# Altium footprint library robot.PcbLib: 32 footprints (part 2 of 2)
Each footprint in its own frame and in the unit in brackets; x right, y up, seen from the top. Pads: shape width x height; smd on the part's side, far side on the other; paste and mask are expansions set on the pad; w line width, h text height; cw(c..) or ccw(c..) is an arc to the next point about the centre after c.
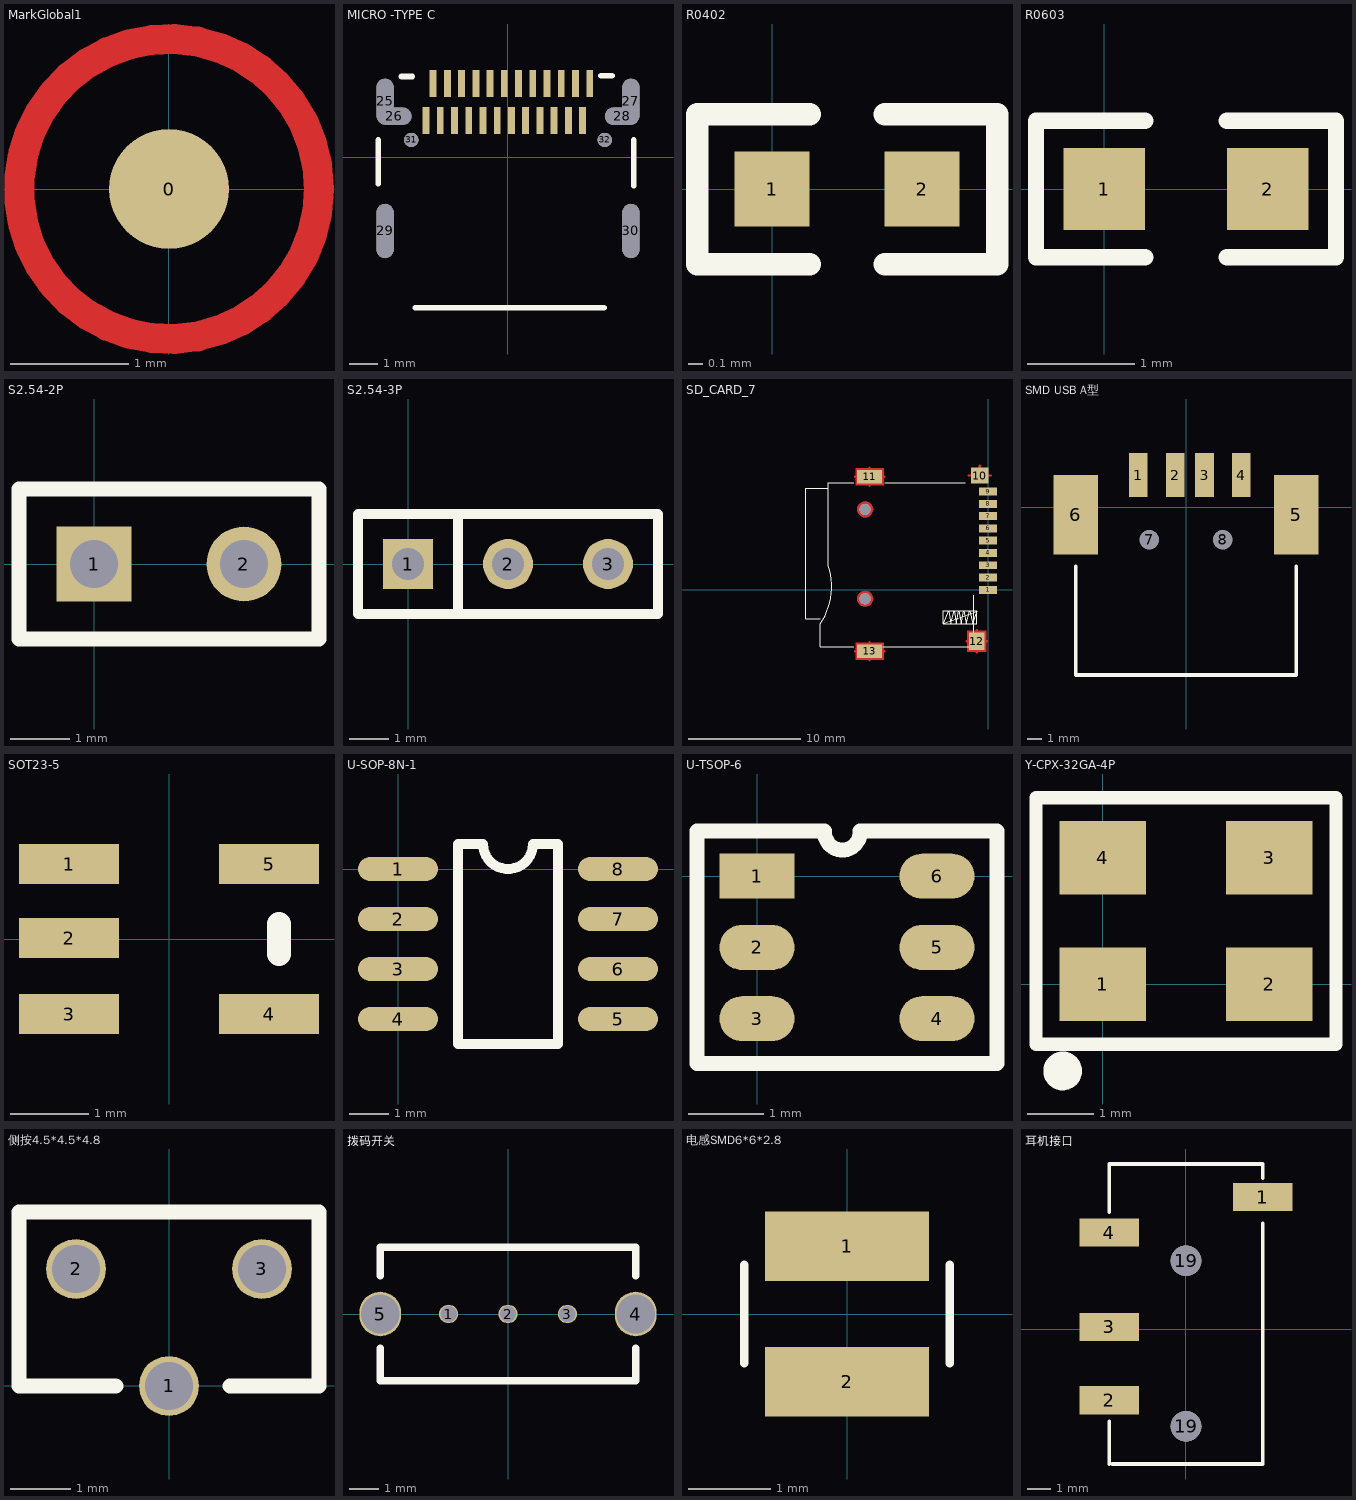
[diagram p1: the footprints below, top view; thin cyan lines are the x and y axes]

## MarkGlobal1 [mil]
pads (1):
  round 40 smd: 0(0.1,0.1)
Top Layer:
  circle w10: c0.1,0.1 r50
Top Solder:
  circle w20: c0.1,0.1 r30

## MICRO -TYPE C [mm]
pads (32):
  oval 0.6x1.6 hole 0.6 slot 1.6 at 90 deg: 25(-4.32,1.963) 27(4.32,1.963)
  oval 1.2x0.6 hole 0.6 slot 1.2 at 0 deg: 26(-3.995,1.445) 28(4.006,1.445)
  oval 0.6x1.9 hole 0.6 slot 1.9 at 90 deg: 29(-4.32,-2.588) 30(4.32,-2.588)
  round 0.5 hole 0.5: 31(-3.4,0.613) 32(3.4,0.613)
  rect 0.24x0.95 smd: A1(-2.63,2.588) A2(-2.13,2.588) A3(-1.63,2.588) A4(-1.13,2.588) A5(-0.63,2.588) A6(-0.13,2.588) A7(0.37,2.588) A8(0.87,2.588) A9(1.37,2.588) A10(1.87,2.588) A11(2.37,2.588) A12(2.87,2.588) B1(-2.88,1.288) B2(-2.38,1.288) B3(-1.88,1.288) B4(-1.38,1.288) B5(-0.88,1.288) B6(-0.38,1.288) B7(0.12,1.288) B8(0.62,1.288) B9(1.12,1.288) B10(1.62,1.288) B11(2.12,1.288) B12(2.62,1.288)
Top Overlay:
  lines w0.2: -4.553,-0.93 -4.553,0.607 ; -3.741,2.842 -3.36,2.842 ; -3.258,-5.286 3.371,-5.286 ; 3.27,2.867 3.651,2.867 ; 4.413,-0.994 4.413,0.606

## R0402 [mil]
height 10
pads (2):
  rect 20x20 smd: 1(0,0) 2(40,0)
Top Overlay:
  lines w6: 10,-20 -20,-20 -20,20 10,20 ; 30,-20 60,-20 60,20 30,20
3D body "R0402.STEP": height 13.78, standoff 0, extent 0.32,-10 39.69,9.68

## R0603 [mil]
height 12
pads (2):
  rect 30x30 smd: 1(0,0) 2(60,0)
Top Overlay:
  lines w6: 15,-25 -25,-25 -25,25 15,25 ; 45,-25 85,-25 85,25 45,25
3D body "R0603.STEP": height 17.72, standoff 0, extent -0.5,-16 62.5,15.5

## S2.54-2P [mil]
pads (2):
  rect 50x50 hole 32: 1(0,0)
  round 50 hole 32: 2(100,0)
Top Overlay:
  lines w10: -50,-50 150,-50 150,50 -50,50 -50,-50
3D body: height 100, standoff 0, extent -50,-50 150,50
3D body: height 314.96, standoff -78.74, extent -16,-16 15.37,15.43
3D body: height 314.96, standoff -78.74, extent 84,-16 115.37,15.43

## S2.54-3P [mil]
pads (3):
  rect 50x50 hole 32: 1(0,0)
  round 50 hole 32: 2(100,0) 3(200,0)
Top Overlay:
  lines w10: 50,-50 50,50 ; -50,-50 250,-50 250,50 -50,50 -50,-50
3D body: height 100, standoff 0, extent -50,-50 250,50
3D body: height 314.96, standoff -78.74, extent -16,-16 15.37,15.43
3D body: height 314.96, standoff -78.74, extent 84,-16 115.37,15.43
3D body: height 314.96, standoff -78.74, extent 184,-16 215.37,15.43

## SD_CARD_7 [mil] "This is 9信号的，适用于A33"
pads (15):
  rect 63x28 smd: 1(0,0) 2(0,43.3) 3(0,86.61) 4(0,129.92) 5(0,173.22) 6(0,216.53) 7(0,259.84) 8(0,303.15) 9(0,346.45)
  rect 63x55 smd: 10(-29.37,402.7)
  rect 87x47 smd: 11(-417.32,398.7) 13(-417.32,-216.54)
  rect 55x63 smd: 12(-39.37,-181.11)
  round 39.37 / inner round 60 / far side round 39.37 hole 39.37: " "(-433.07,-31.5) " "(-433.07,283.46)
Top Layer:
  pour cut-out: -405.14,-31.5 -406.1,-24.27 -408.89,-17.54 -413.32,-11.75 -419.11,-7.32 -425.84,-4.53 -433.07,-3.57 -440.3,-4.53 -447.03,-7.32 -452.82,-11.75 -457.25,-17.54 -460.04,-24.27 -461,-31.5 -460.04,-38.73 -457.25,-45.46 -452.82,-51.25 -447.03,-55.68 -440.3,-58.47 -433.07,-59.43 -425.84,-58.47 -419.11,-55.68 -413.32,-51.25 -408.89,-45.46 -406.1,-38.73
  pour cut-out: -405.14,283.46 -406.1,290.69 -408.89,297.42 -413.32,303.21 -419.11,307.64 -425.84,310.43 -433.07,311.39 -440.3,310.43 -447.03,307.64 -452.82,303.21 -457.25,297.42 -460.04,290.69 -461,283.46 -460.04,276.23 -457.25,269.5 -452.82,263.71 -447.03,259.28 -440.3,256.49 -433.07,255.53 -425.84,256.49 -419.11,259.28 -413.32,263.71 -408.89,269.5 -406.1,276.23
  pour cut-out: -5.87,-143.61 -5.87,-218.61 -72.87,-218.61 -72.87,-143.61
  pour cut-out: -367.82,-187.04 -367.82,-246.04 -466.82,-246.04 -466.82,-187.04
  pour cut-out: -367.82,428.2 -367.82,369.2 -466.82,369.2 -466.82,428.2
  lines w6: 0,43.3 0.28,43.58
  lines w8: -468.82,-216.54 -417.32,-216.54 ; -468.82,398.7 -417.32,398.7 ; -417.32,-248.04 -417.32,-216.54 ; -417.32,-185.04 -417.32,-216.54 ; -417.32,367.2 -417.32,398.7 ; -417.32,430.2 -417.32,398.7 ; -365.82,-216.54 -417.32,-216.54 ; -365.82,398.7 -417.32,398.7 ; -74.87,-181.11 -39.37,-181.11 ; -68.87,402.7 -29.37,402.7 ; -39.37,-220.61 -39.37,-181.11 ; -39.37,-141.61 -39.37,-181.11 ; -29.37,438.2 -29.37,402.7 ; -3.87,-181.11 -39.37,-181.11 ; 10.13,402.7 -29.37,402.7
Bottom Layer:
  pour cut-out: -405.14,-31.5 -406.1,-24.27 -408.89,-17.54 -413.32,-11.75 -419.11,-7.32 -425.84,-4.53 -433.07,-3.57 -440.3,-4.53 -447.03,-7.32 -452.82,-11.75 -457.25,-17.54 -460.04,-24.27 -461,-31.5 -460.04,-38.73 -457.25,-45.46 -452.82,-51.25 -447.03,-55.68 -440.3,-58.47 -433.07,-59.43 -425.84,-58.47 -419.11,-55.68 -413.32,-51.25 -408.89,-45.46 -406.1,-38.73
  pour cut-out: -405.14,283.46 -406.1,290.69 -408.89,297.42 -413.32,303.21 -419.11,307.64 -425.84,310.43 -433.07,311.39 -440.3,310.43 -447.03,307.64 -452.82,303.21 -457.25,297.42 -460.04,290.69 -461,283.46 -460.04,276.23 -457.25,269.5 -452.82,263.71 -447.03,259.28 -440.3,256.49 -433.07,255.53 -425.84,256.49 -419.11,259.28 -413.32,263.71 -408.89,269.5 -406.1,276.23
Top Overlay:
  lines w3: -590.94,-102.37 -641.73,-102.37 -641.73,358.26 -564.57,358.26 ; -472.44,-200.79 -590.55,-200.79 -590.55,-119.69 ccw(c-788.3,11.01) -562.99,84.64 -562.99,377.95 -472.44,377.95 ; -371.26,-200.79 -51.18,-200.79 -51.18,-19.69 ; -364.01,377.95 -80.55,377.95 ; -157.48,-120.08 -39.37,-120.08 -39.37,-72.84 -157.48,-72.84 -157.48,-120.08 ; -156.3,-118.11 -138.58,-73.23 -132.28,-119.69 -119.29,-73.23 -111.81,-119.69 -103.15,-73.23 -95.27,-119.69 -86.22,-73.23 -76.38,-119.69 -64.57,-73.23 -53.15,-119.69 -38.58,-74.81 -156.3,-118.11
Mechanical 9:
  text "9" at -10,346.45 h23.62
  text "6" at -10,216.53 h23.62
  text "4" at -10,129.92 h23.62
  text "2" at -10,43.3 h23.62
  text "3" at -10,86.61 h23.62
  text "1" at -10,0 h23.62
  text "5" at -10,173.22 h23.62
  text "7" at -10,259.84 h23.62
  text "8" at -10,303.15 h23.62

## SMD USB A型 [mm]
pads (8):
  rect 1.27x3 smd: 1(-3.238,2.2) 2(-0.738,2.2) 3(1.262,2.2) 4(3.762,2.2)
  rect 3x5.4 smd: 5(7.5,-0.5) 6(-7.5,-0.5)
  round 1.3 hole 1.3: 7(-2.5,-2.2) 8(2.5,-2.2)
Top Overlay:
  lines w0.254: -7.5,-4 -7.5,-11.4 7.5,-11.4 7.5,-4

## SOT23-5 [mil]
pads (5):
  rect 50x20 smd: 1(-50,37.5) 2(-50,0.5) 3(-50,-37.5) 4(50,-37.5) 5(50,37.5)
Top Overlay:
  lines w12: 55,-7.5 55,7.5

## U-SOP-8N-1 [mil]
pads (8):
  oval 80x24 smd: 1(0,0) 2(0,-50) 3(0,-100) 4(0,-150) 5(220,-150) 6(220,-100) 7(220,-50) 8(220,0)
Top Overlay:
  lines w10: 60,-175 60,25 85,25 ccw(c110,25) 135,25 160,25 160,-175 60,-175
3D body: height 59.06, standoff 3.94, extent 60,-175 160,25
3D body: height 10, standoff 0, extent -8,-9 62,10
3D body: height 10, standoff 0, extent -8,-58.5 62,-39.5
3D body: height 10, standoff 0, extent -8,-108.5 62,-89.5
3D body: height 10, standoff 0, extent -8,-159.5 62,-140.5
3D body: height 10, standoff 0, extent 157,-159.5 227,-140.5
3D body: height 10, standoff 0, extent 157,-109.5 227,-90.5
3D body: height 10, standoff 0, extent 157,-58.5 227,-39.5
3D body: height 10, standoff 0, extent 157,-8.5 227,10.5

## U-TSOP-6 [mm]
pads (6):
  rect 1x0.6 smd: 1(0,0)
  oval 1x0.6 smd: 2(0,-0.95) 3(0,-1.9) 4(2.4,-1.9) 5(2.4,-0.95) 6(2.4,0)
Top Overlay:
  lines w0.2: -0.8,-2.5 3.2,-2.5 3.2,0.6 1.375,0.6 cw(c1.138,0.587) 0.9,0.6 -0.8,0.6 -0.8,-2.5

## Y-CPX-32GA-4P [mm]
pads (4):
  rect 1.3x1.1 smd: 1(0,0) 2(2.5,0) 3(2.5,1.9) 4(0,1.9)
Top Overlay:
  circle w0.3: c-0.6,-1.3 r0.141
  lines w0.2: -1,-0.9 -1,0.4 -1,2.8 3.5,2.8 3.5,-0.9 -1,-0.9

## 侧按4.5*4.5*4.8 [mm] "3PIN DIP"
pads (3):
  round 1 hole 0.8: 1(0,0) 2(-1.55,1.95) 3(1.55,1.95)
Top Overlay:
  lines w0.254: -0.889,0 -2.5,0 -2.5,2.9 2.5,2.9 2.5,0 1.016,0

## 拨码开关 [mm]
pads (5):
  oval 0.65x0.6 hole 0.55: 1(-2,0) 2(0,0) 3(2,0)
  oval 1.4x1.5 hole 1.3: 4(4.3,0) 5(-4.3,0)
Top Overlay:
  lines w0.254: -4.3,-1.161 -4.3,-2.25 4.3,-2.25 4.3,-1.161 ; -4.3,1.288 -4.3,2.25 4.3,2.25 4.3,1.288

## 电感SMD6*6*2.8 [mm]
pads (2):
  rect 2x0.85 smd: 1(0,0.825) 2(0,-0.825)
Top Overlay:
  lines w0.1: -1.25,-0.6 -1.25,0.6 ; 1.25,-0.6 1.25,0.6

## 耳机接口 [mm]
height 1.45
pads (6):
  rect 2.5x1.2 smd: 1(3.25,5.6) 2(-3.25,-3) 3(-3.25,0.1) 4(-3.25,4.1)
  round 1.3 hole 1.3: 19(0,-4.1) 19(0,2.9)
Top Overlay:
  lines w0.152: -3.25,-5.7 -3.25,-3.9 ; -3.25,4.953 -3.25,7 3.25,7 3.25,6.4 ; -3.123,-5.7 3.25,-5.7 3.25,4.5